# Altium footprint library MJTP1117 SPST Switch.PcbLib: 1 footprints
Each footprint in its own frame and in the unit in brackets; x right, y up, seen from the top. Pads: shape width x height; smd on the part's side, far side on the other; paste and mask are expansions set on the pad; w line width, h text height; cw(c..) or ccw(c..) is an arc to the next point about the centre after c.
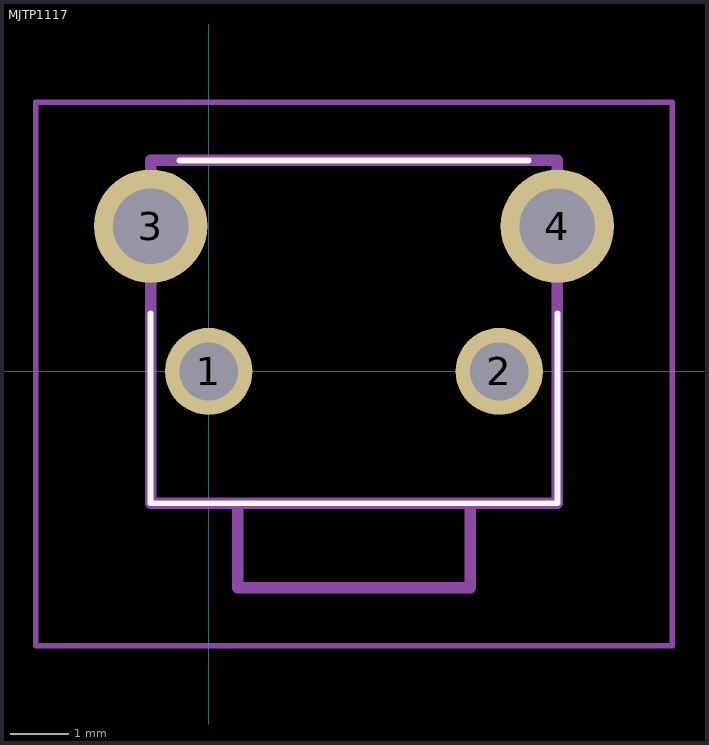
[diagram p0: the footprint, top view; thin cyan lines are the x and y axes]

## MJTP1117 [mm]
pads (4):
  round 1.5 hole 1: 1(0,0) 2(5,0)
  round 1.95 hole 1.3: 3(-1,2.5) 4(6,2.5)
Top Overlay:
  lines w0.1: -1,1 -1,-2.27 6,-2.27 6,1 ; -0.5,3.63 5.5,3.63
Mechanical 13:
  lines w0.2: 0.5,-2.27 0.5,-3.72 4.5,-3.72 4.5,-2.27 ; -1,-2.27 6,-2.27 6,3.63 -1,3.63 -1,-2.27
Mechanical 15:
  lines w0.1: -2.975,-4.72 7.975,-4.72 7.975,4.63 -2.975,4.63 -2.975,-4.72